# Altium schematic symbol library PMM-3738-VM1000-R.SchLib: 1 symbol
Pins are listed as number, name and electrical type; pins without a type are passive.

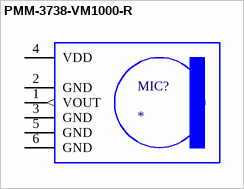
[diagram p0: symbol PMM-3738-VM1000-R]

## PMM-3738-VM1000-R
designator MIC?
Low-Noise Bottom Port Piezoelectric MEMS Microphone
pins: 1 VOUT (out), 2 GND (power), 3 GND (power), 4 VDD (power), 5 GND (power), 6 GND (power)